# EAGLE library part ATD_SPLC792-I2C (library mylib2)
aitendo I2C LCD SPLC792-I2C
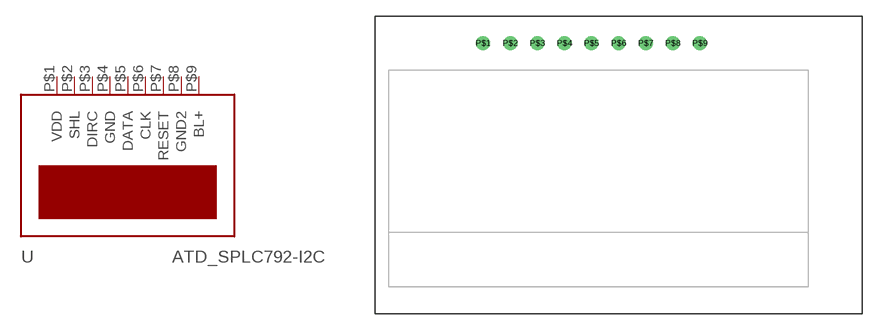
[diagram p16: symbol with the pads of ATD_SPLC792-I2C; footprint ATD_SPLC792-I2C]

Designator prefix -

## ATD_SPLC792-I2C  [ATD_SPLC792-I2C]
P$1  VDD  pwr
P$2  SHL  nc
P$3  DIRC  nc
P$4  GND  pwr
P$5  DATA
P$6  CLK  in
P$7  RESET  in
P$8  GND2  pwr
P$9  BL+  pwr

## Footprint ATD_SPLC792-I2C (pad centres in mm)
drill 0.8: P$1 -8.89,5.08; P$2 -6.35,5.08; P$3 -3.81,5.08; P$4 -1.27,5.08; P$5 1.27,5.08; P$6 3.81,5.08; P$7 6.35,5.08; P$8 8.89,5.08; P$9 11.43,5.08